# Altium footprint library Schematic Components.PcbLib: 6 footprints
Each footprint in its own frame and in the unit in brackets; x right, y up, seen from the top. Pads: shape width x height; smd on the part's side, far side on the other; paste and mask are expansions set on the pad; w line width, h text height; cw(c..) or ccw(c..) is an arc to the next point about the centre after c.
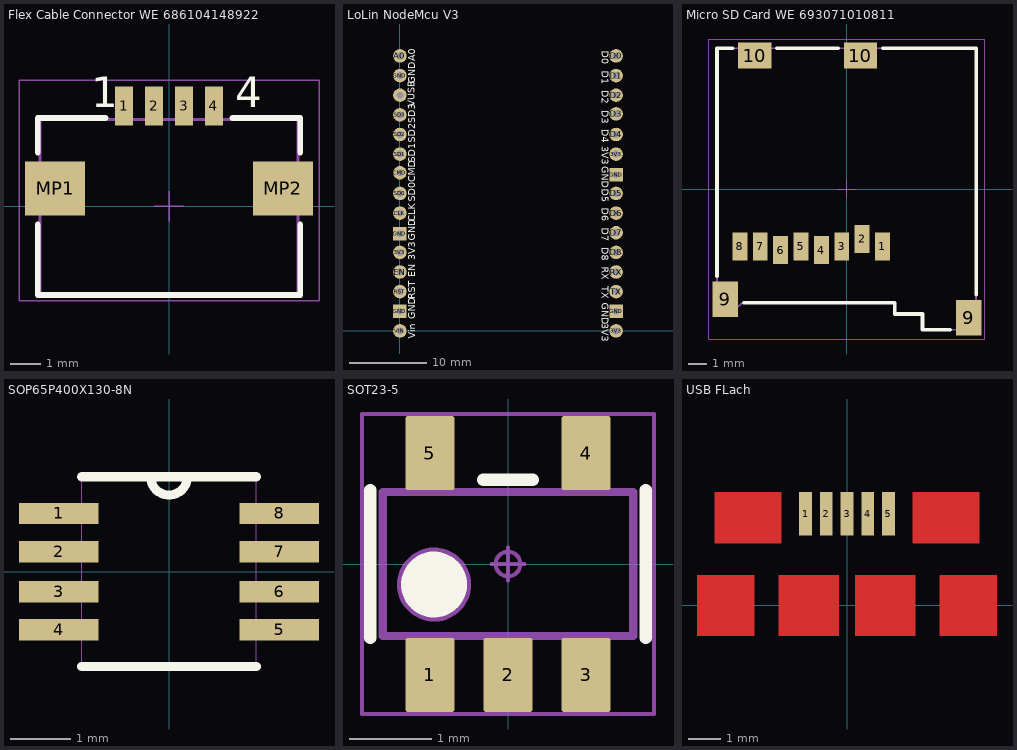
[diagram p0: the footprints below, top view; thin cyan lines are the x and y axes]

## Flex Cable Connector WE 686104148922 [mm] "ZIF Connectors, Horizontal, Bottom Contact Hinge Type, pitch 1mm, 4p"
height 2.3
pads (6):
  rect 0.6x1.3 smd: 1(-1.5,3.35) 2(-0.5,3.35) 3(0.5,3.35) 4(1.5,3.35)
  rect 2x1.8 smd: MP1(-3.8,0.6) MP2(3.8,0.6)
Top Overlay:
  lines w0.2: -4.375,-0.6 -4.375,-2.95 4.375,-2.95 4.375,-0.6 ; -4.375,1.8 -4.375,2.95 -2.125,2.95 ; 2.125,2.95 4.375,2.95 4.375,1.8
  text "4" at 2.2,3.3 h1.02
  text "1" at -2.6,3.3 h1.02
Mechanical 13:
  lines w0.1: -4.3,-2.9 4.3,-2.9 4.3,2.9 -4.3,2.9 -4.3,-2.9
Mechanical 15:
  lines w0.05: -0.5,0 0.5,0 ; 0,-0.5 0,0.5 ; -5,-3.15 5,-3.15 5,4.2 -5,4.2 -5,-3.15
3D body "686104148922.stp": height 2.27, standoff 0.02, extent -4.3,-2.9 4.3,3.6

## LoLin NodeMcu V3 [mil]
pads (30):
  round 69 hole 35: 3V3(0,400) 3V3(1100,0) 3V3(1100,900) A0(0,1400) CLK(0,600) CMD(0,805) D0(1100,1400) D1(1100,1300) D2(1100,1200) D3(1100,1105) D4(1100,1000) D5(1100,700) D6(1100,600) D7(1100,500) D8(1100,400) EN(0,300) GND(0,1300) RST(0,200) RX(1100,300) SD0(0,700) SD1(0,900) SD2(0,1000) SD3(0,1100) TX(1100,200) VIN(0,0) VUSB(0,1200)
  rect 69x69 hole 35: GND(0,100) GND(0,495) GND(1100,100) GND(1100,795)
Top Overlay:
  text "GND" at 90,458 h60
  text "3V3" at 90,361 h60
  text "EN" at 90,274 h60
  text "RST" at 90,162 h60
  text "GND" at 90,59 h60
  text "Vin" at 90,-41 h60
  text "D7" at 1015,524.77 h60
  text "D8" at 1015,424.89 h60
  text "RX" at 1015,325.94 h60
  text "TX" at 1015,227 h60
  text "GND" at 1015,143.8 h60
  text "3V3" at 1015,40 h60
  text "D6" at 1015,625.88 h60
  text "CMD" at 90,756.86 h60
  text "D0" at 1015,1426 h60
  text "D1" at 1015,1324.65 h60
  text "D2" at 1015,1224.42 h60
  text "D3" at 1015,1124.42 h60
  text "D4" at 1015,1026 h60
  text "3V3" at 1015,940.99 h60
  text "GND" at 1015,839 h60
  text "D5" at 1015,725 h60
  text "A0" at 90,1373 h60
  text "GND" at 90,1259 h60
  text "VUSB" at 89,1141 h60
  text "SD3" at 90,1058.14 h60
  text "SD2" at 90,957.71 h60
  text "SD1" at 90,857.29 h60
  text "SD0" at 90,656.43 h60
  text "CLK" at 90,556 h60

## Micro SD Card WE 693071010811 [mm] "Micro SD Card Connector Push & Push - with Card Detection - 8 Pins"
height 1.98
pads (12):
  rect 0.8x1.5 smd: 1(1.94,-3.1) 2(0.84,-2.7) 3(-0.26,-3.1) 4(-1.36,-3.3) 5(-2.46,-3.1) 6(-3.56,-3.3) 7(-4.66,-3.1) 8(-5.76,-3.1)
  rect 1.4x1.9 smd: 9(-6.55,-5.95) 9(6.6,-6.95)
  rect 1.8x1.4 smd: 10(-4.95,7.2) 10(0.75,7.2)
Top Overlay:
  lines w0.2: -7,-4.7 -7,7.6 -6.15,7.6 ; -5.55,-6.15 2.6,-6.15 2.6,-6.75 4.1,-6.75 4.1,-7.6 5.6,-7.6 ; -3.75,7.6 -0.45,7.6 ; 1.95,7.6 7,7.6 7,-5.7
Mechanical 13:
  lines w0.1: -6.2,-6.6 -7,-6.6 -7,7.6 7,7.6 7,-7.6 4.1,-7.6 4.1,-6.75 2.6,-6.75 2.6,-6.15 -5.6,-6.15 -6.199,-6.601
Mechanical 15:
  lines w0.05: -0.5,0 0.5,0 ; 0,-0.5 0,0.5 ; -7.45,-8.1 -7.45,8.1 7.45,8.1 7.45,-8.1 -7.45,-8.1
3D body "693071010811.stp": height 1.85, standoff -0.05, extent -7,-7.61 7,7.6

## SOP65P400X130-8N [mil]
pads (8):
  rect 52x14 smd: 1(-72,38) 2(-72,13) 3(-72,-13) 4(-72,-38) 5(72,-38) 6(72,-13) 7(72,13) 8(72,38)
Top Overlay:
  lines w6: -57,-62 57,-62 ; -57,62 -12,62 ; 57,62 12,62 ; -12,62 ccw(c0,62) 12,62 ; -12,62 12,62
Mechanical 4:
  lines w0: -84,-44 -84,-32 ; -84,-44 -57,-44 ; -84,-44 -84,-32 ; -84,-44 -57,-44 ; -84,-32 -57,-32 ; -84,-32 -57,-32 ; -84,-19 -84,-7 ; -84,-19 -57,-19 ; -84,-19 -84,-7 ; -84,-19 -57,-19 ; -84,-7 -57,-7 ; -84,-7 -57,-7 ; -84,7 -84,19 ; -84,7 -57,7 ; -84,7 -84,19 ; -84,7 -57,7 ; -84,19 -57,19 ; -84,19 -57,19 ; -84,32 -84,44 ; -84,32 -57,32 ; -84,32 -84,44 ; -84,32 -57,32 ; -84,44 -57,44 ; -84,44 -57,44 ; -57,-62 57,-62 ; -57,-62 -57,62 ; -57,-62 57,-62 ; -57,-62 -57,62 ; -57,-44 -57,-32 ; -57,-44 -57,-32 ; -57,-19 -57,-7 ; -57,-19 -57,-7 ; -57,7 -57,19 ; -57,7 -57,19 ; -57,32 -57,44 ; -57,32 -57,44 ; -57,62 -12,62 ; -57,62 -12,62 ; -12,62 ccw(c0,62) 12,62 ; -12,62 ccw(c0,62) 12,62 ; -12,62 12,62 ; -12,62 12,62 ; 12,62 57,62 ; 12,62 57,62 ; 57,-62 57,62 ; 57,-62 57,62 ; 57,-44 57,-32 ; 57,-44 84,-44 ; 57,-44 57,-32 ; 57,-44 84,-44 ; 57,-32 84,-32 ; 57,-32 84,-32 ; 57,-19 57,-7 ; 57,-19 84,-19 ; 57,-19 57,-7 ; 57,-19 84,-19 ; 57,-7 84,-7 ; 57,-7 84,-7 ; 57,7 57,19 ; 57,7 84,7 ; 57,7 57,19 ; 57,7 84,7 ; 57,19 84,19 ; 57,19 84,19 ; 57,32 57,44 ; 57,32 84,32 ; 57,32 57,44 ; 57,32 84,32 ; 57,44 84,44 ; 57,44 84,44 ; 84,-44 84,-32 ; 84,-44 84,-32 ; 84,-19 84,-7 ; 84,-19 84,-7 ; 84,7 84,19 ; 84,7 84,19 ; 84,32 84,44 ; 84,32 84,44
3D body "User Library-TXS0102DCTR-SSOP8.STEP": height 41.34, standoff 0, extent -84.48,-62 84.48,62.01

## SOT23-5 [mm] "SOT-23-5"
height 1.5
pads (5):
  rrect10% 0.6x0.9 smd: 1(-0.95,-1.35) 2(0,-1.35) 3(0.95,-1.35) 4(0.95,1.35) 5(-0.95,1.35)
Top Overlay:
  circle w0.6: c-0.9,-0.25 r0.1
  lines w0.15: -1.675,-0.9 -1.675,0.9 ; -0.3,1.025 0.3,1.025 ; 1.675,-0.9 1.675,0.9
Top Designator:
  text ".Designator" at -1.5,3.25 h0.5
Top Value:
  text ".Value" at -1.5,2.25 h0.5
Top Assembly:
  circle w0.6: c-0.9,-0.25 r0.15
  lines w0.1: -1.525,-0.875 1.525,-0.875 1.525,0.875 -1.525,0.875 -1.525,-0.875
Top Component Center:
  circle w0.05: c0,0 r0.15
  lines w0.05: -0.2,0 0.2,0 ; 0,-0.2 0,0.2
Top Courtyard:
  lines w0.05: -1.775,-1.825 -1.775,1.825 1.775,1.825 1.775,-1.825 -1.775,-1.825
3D body "SOT23127P600-8N.step": height 1.45, standoff 0, extent -1.525,-1.5 1.525,1.5

## USB FLach [mm]
pads (5):
  rect 0.4x1.35 smd: 1(-1.3,2.875) 2(-0.65,2.875) 3(0,2.875) 4(0.65,2.875) 5(1.3,2.875)
Top Layer:
  region: -0.25,0.95 -2.15,0.95 -2.15,-0.95 -0.25,-0.95
  rectangle: 0.25,-0.95 2.15,0.95
  rectangle: 2.9,-0.95 4.7,0.95
  rectangle: -4.7,-0.95 -2.9,0.95
  rectangle: 2.05,1.95 4.15,3.55
  rectangle: -4.15,1.95 -2.05,3.55
3D body "User Library-10118192.STEP": height 2.74, standoff -0.27, extent -3.956,-2.794 3.956,2.867